# EAGLE library part SI5351 (library Fugu_LSI)
I2C-PROGRAMMABLE ANY-FREQUENCY CMOS CLOCK GENERATOR + VCXO
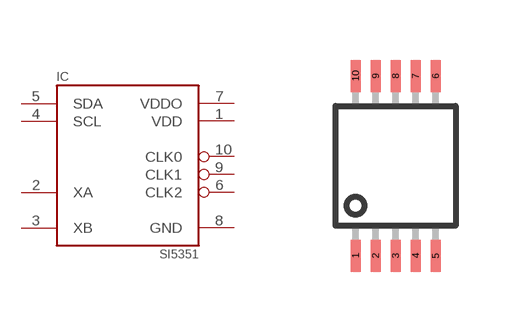
[diagram p1: symbol with the pads of SO10; footprint SO10]

Designator prefix IC

## SI5351  [SO10]
1  VDD
2  XA
3  XB
4  SCL
5  SDA
6  CLK2
7  VDDO
8  GND
9  CLK1
10  CLK0

## Footprint SO10 (pad centres in mm)
10-Lead Mini_SO Package (RM-10)
smd 0.25 x 0.8: 1 -1,-2.25; 2 -0.5,-2.25; 3 0,-2.25; 4 0.5,-2.25; 5 1,-2.25; 6 1,2.25; 7 0.5,2.25; 8 0,2.25; 9 -0.5,2.25; 10 -1,2.25